# Altium schematic symbol library lib_htx2.SchLib: 1 symbol
Pins are listed as number, name and electrical type; pins without a type are passive.

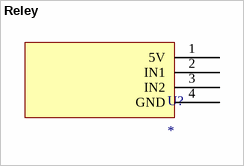
[diagram p0: symbol Reley]

## Reley
designator U?
pins: 1 5V, 2 IN1, 3 IN2, 4 GND